# Altium schematic symbol library AMC1336.SchLib: 1 symbol
Pins are listed as number, name and electrical type; pins without a type are passive.

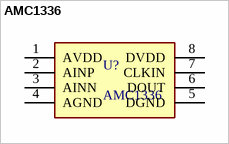
[diagram p0: symbol AMC1336]

## AMC1336
designator U?
footprint FP-DWV0008A-MFG
footprint FP-DWV0008A-IPC_A
pins: 1 AVDD, 2 AINP, 3 AINN, 4 AGND, 5 DGND, 6 DOUT, 7 CLKIN, 8 DVDD